# EAGLE library part AP1509-50SG-13 (library AP1509-50SG-13)
DiodesZetex, AP1509-50SG-13 DC-DC Converter 2A 8-Pin, SOP Source: Datasheet <https://www.diodes.com//assets/Datasheets/AP1509.pdf>
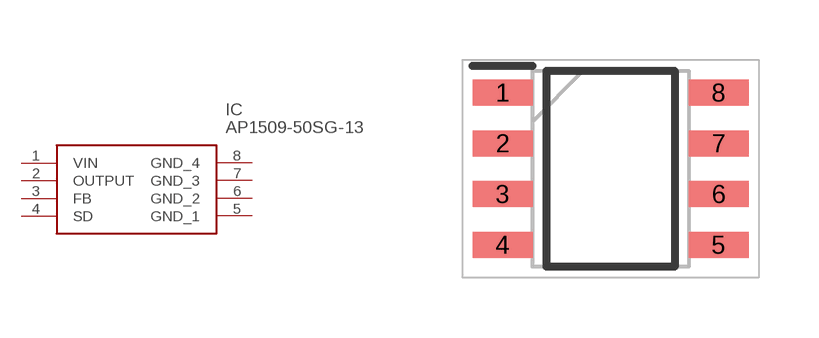
[diagram p0: symbol with the pads of SOIC127P600X170-8N; footprint SOIC127P600X170-8N]

Designator prefix IC

## AP1509-50SG-13 (Arrow_Part_Number: AP1509-50SG-13; Arrow_Price-Stock: https://www.arrow.com/en/products/ap1509-50sg-13/diodes-incorporated.html?utm_currency=USD&region=nac; Description: DiodesZetex, AP1509-50SG-13 DC-DC Converter 2A 8-Pin, SOP; Height: 1.7mm; Manufacturer_Name: Diodes Incorporated; Manufacturer_Part_Number: AP1509-50SG-13; Mouser_Part_Number: 621-AP1509-50SG-13; Mouser_Price-Stock: https://www.mouser.co.uk/ProductDetail/Diodes-Incorporated/AP1509-50SG-13?qs=EJYhozv%252BYpwbI10CpTvwPw%3D%3D)  [SOIC127P600X170-8N]
1  VIN
2  OUTPUT
3  FB
4  SD
5  GND_1
6  GND_2
7  GND_3
8  GND_4

## Footprint SOIC127P600X170-8N (pad centres in mm)
SO-8-2024
smd 1.5 x 0.65: 1 -2.7,1.905; 2 -2.7,0.635; 3 -2.7,-0.635; 4 -2.7,-1.905; 5 2.7,-1.905; 6 2.7,-0.635; 7 2.7,0.635; 8 2.7,1.905